# EAGLE library part 691401710022 (library Terminal_Blocks_Connectors_rev15e)
WR-TBL Terminal block - serie 401 5,0mm - Spring clamp/Screw less - horizontal entry - 22p Code:Con_TBL_Screwless_5.00_6914017100xxB_691401710022 <http://katalog.we-online.de/media/images/eican/Con_TBL_Screwless_5.00_6914017100xxB_pf2.jpg> Details see: http://katalog.we-online.de/en/em/691_401_710_0xx/691_401_710_022B?m Created 2014-12-22, aslant tao 2014 (C) Würth Elektronik
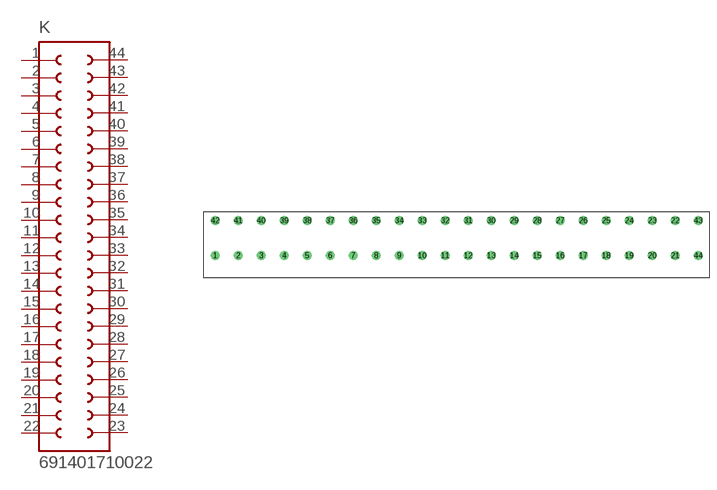
[diagram p251: symbol with the pads of 691401710022; footprint 691401710022]

Designator prefix K

## 691401710022  [691401710022]
1  1  pas
2  2  pas
3  3  pas
4  4  pas
5  5  pas
6  6  pas
7  7  pas
8  8  pas
9  9  pas
10  10  pas
11  11  pas
12  12  pas
13  13  pas
14  14  pas
15  15  pas
16  16  pas
17  17  pas
18  18  pas
19  19  pas
20  20  pas
21  21  pas
22  22  pas
23  23  pas
24  24  pas
25  25  pas
26  26  pas
27  27  pas
28  28  pas
29  29  pas
30  30  pas
31  31  pas
32  32  pas
33  33  pas
34  34  pas
35  35  pas
36  36  pas
37  37  pas
38  38  pas
39  39  pas
40  40  pas
41  41  pas
42  42  pas
43  43  pas
44  44  pas

## Footprint 691401710022 (pad centres in mm)
WR-TBL Serie 401 - 5.0mm Screwless Horizontal Entry - 2 mm2 Wires, 22 Pins
drill 1.3: 1 -55,0; 2 -50,0; 3 -45,0; 4 -40,0; 5 -35,0; 6 -30,0; 7 -25,0; 8 -20,0; 9 -15,0; 10 -10,0; 11 -5,0; 12 0,0; 13 5,0; 14 10,0; 15 15,0; 16 20,0; 17 25,0; 18 30,0; 19 35,0; 20 40,0; 21 45,0; 22 45,7.62; 23 40,7.62; 24 35,7.62; 25 30,7.62; 26 25,7.62; 27 20,7.62; 28 15,7.62; 29 10,7.62; 30 5,7.62; 31 0,7.62; 32 -5,7.62; 33 -10,7.62; 34 -15,7.62; 35 -20,7.62; 36 -25,7.62; 37 -30,7.62; 38 -35,7.62; 39 -40,7.62; 40 -45,7.62; 41 -50,7.62; 42 -55,7.62; 43 50,7.62; 44 50,0